# Altium schematic symbol library Octavo.SchLib: 3 symbols
Pins are listed as number, name and electrical type; pins without a type are passive.

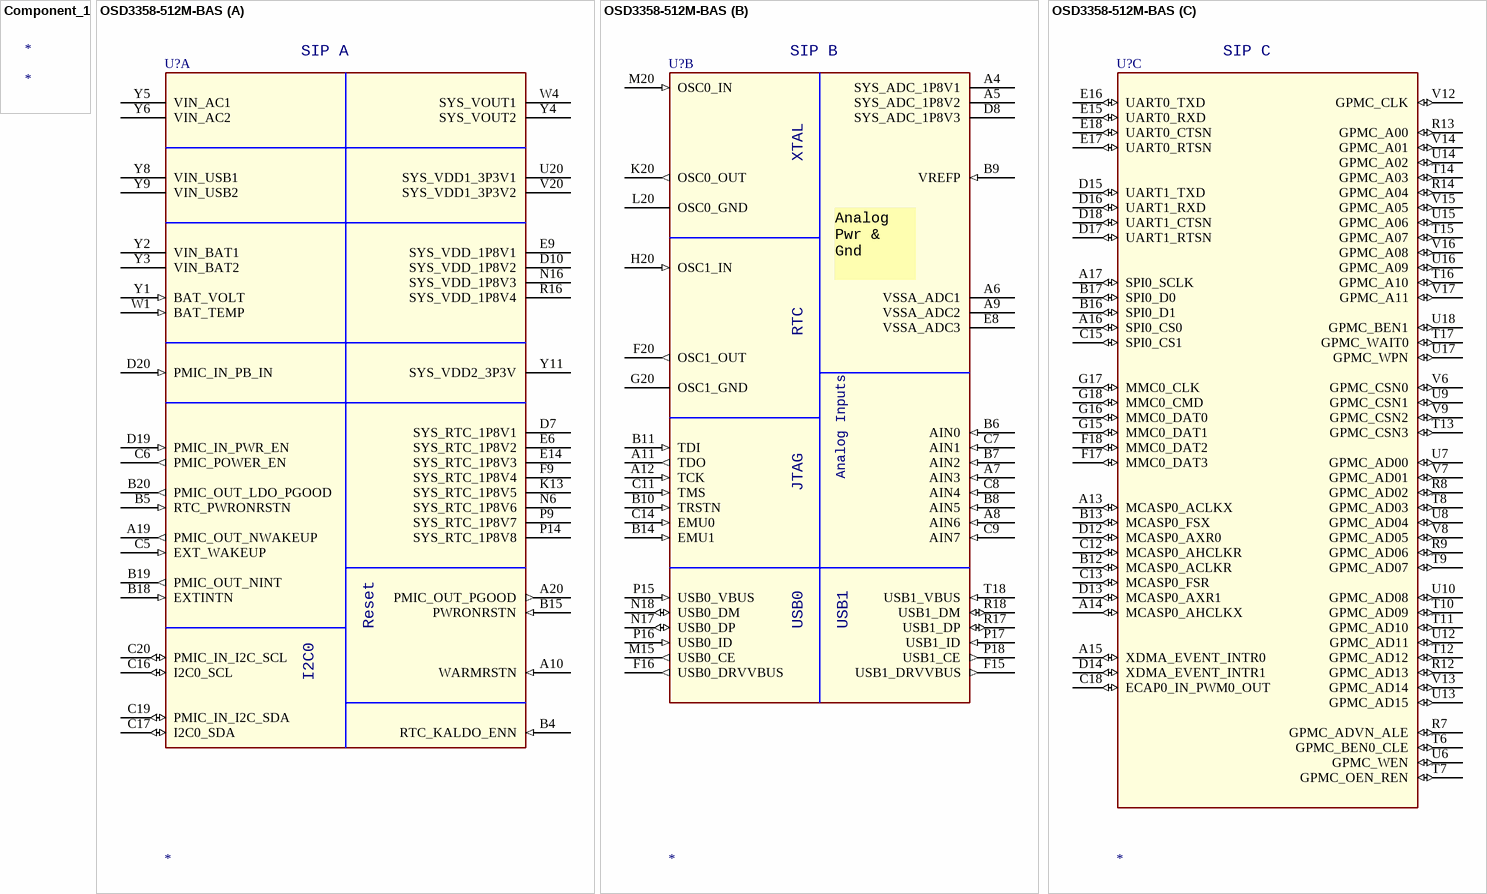
[diagram p0: symbols Component_1 to OSD3358-512M-BAS]

## Component_1
designator *

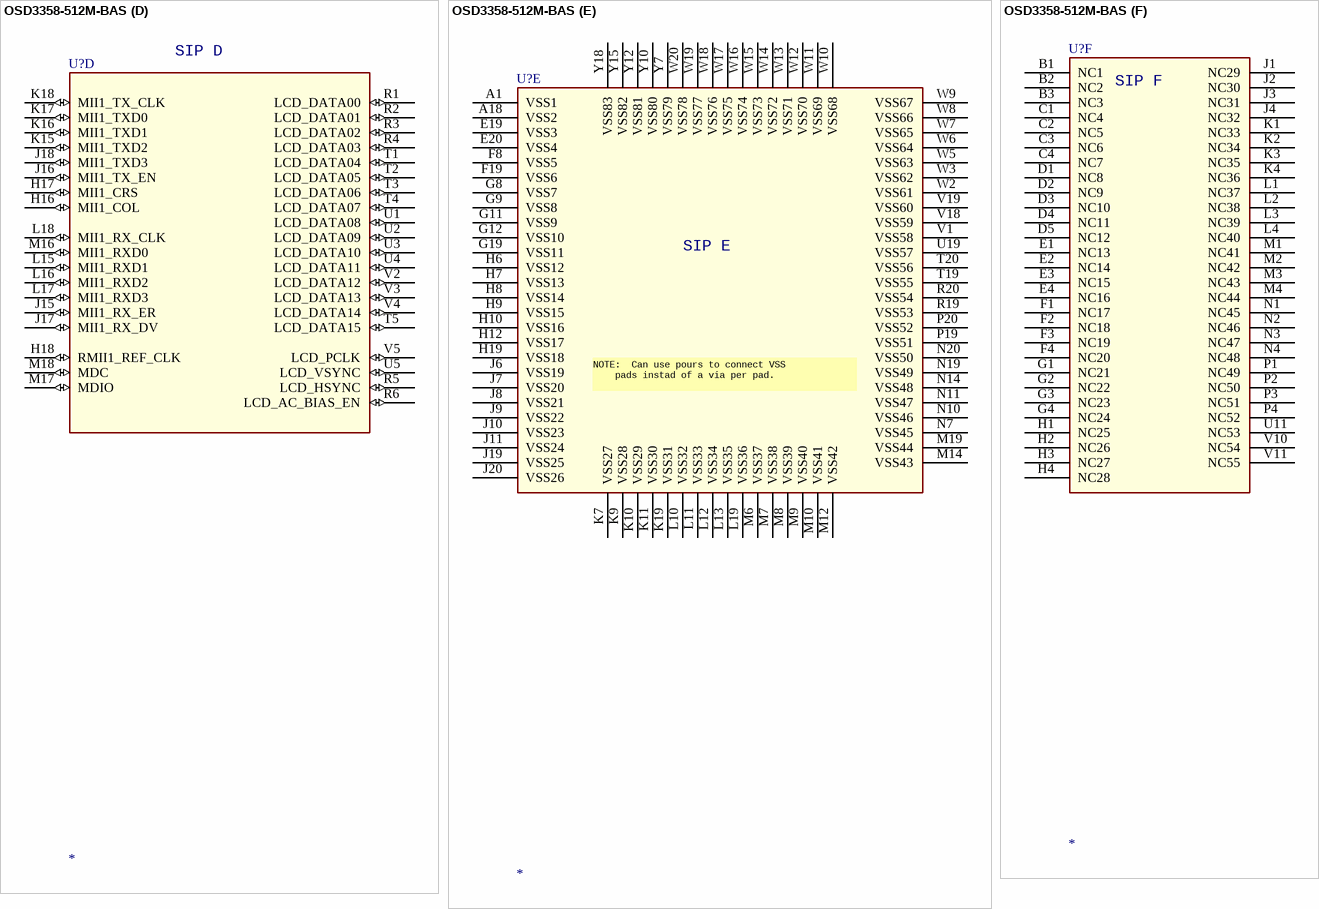
[diagram p1: symbol OSD3358-512M-BAS]

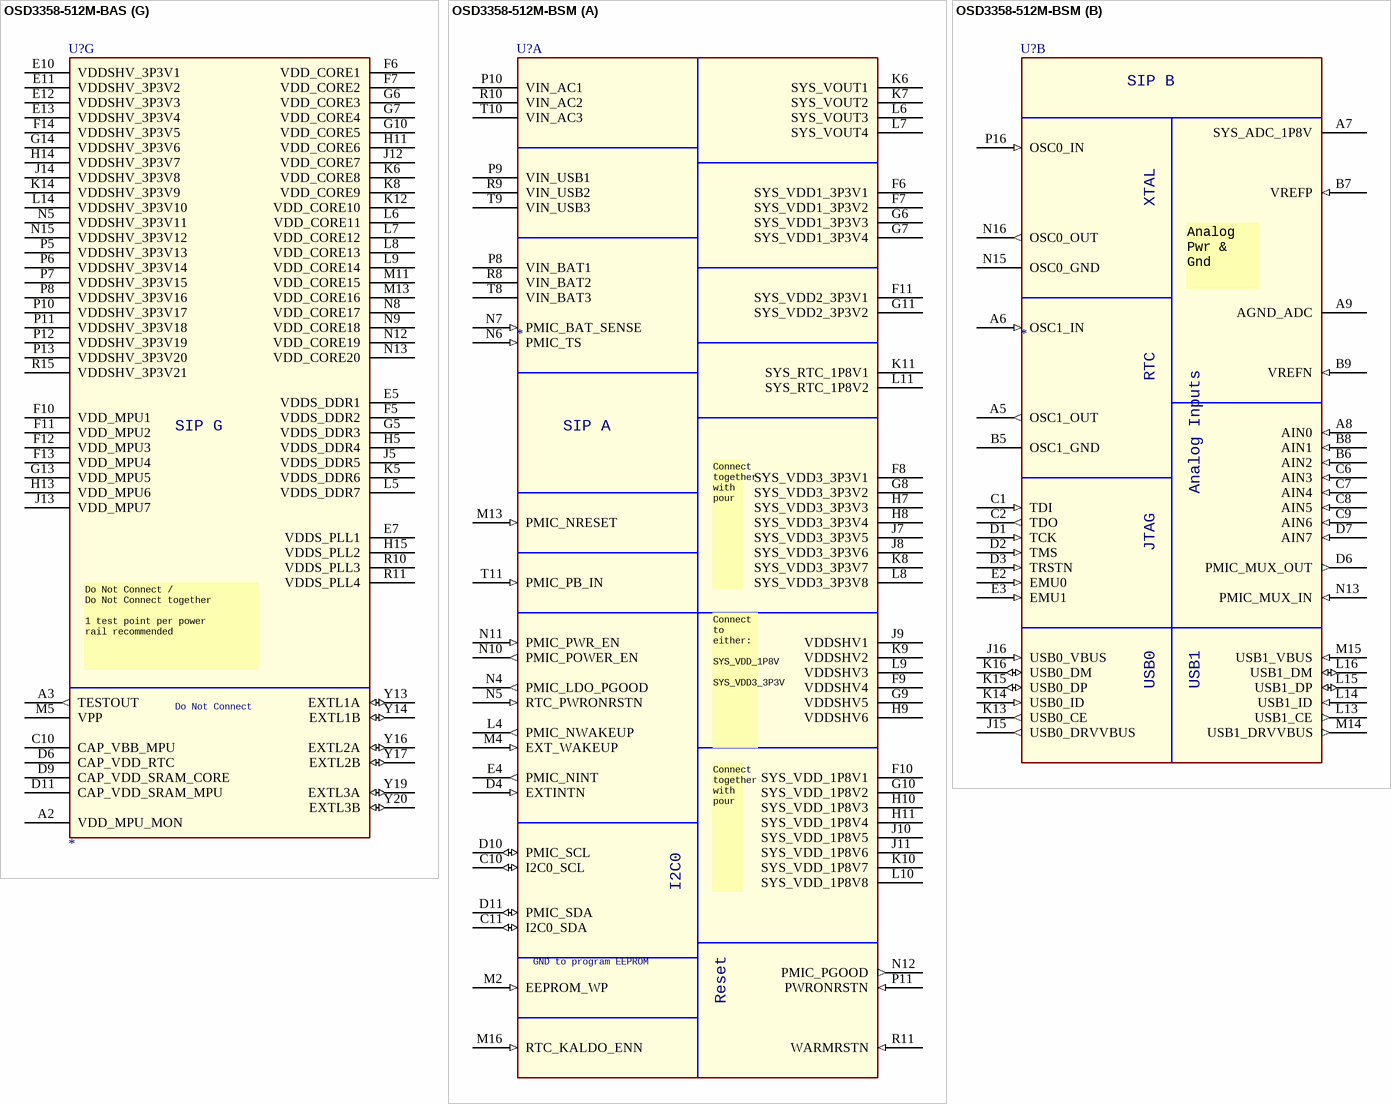
[diagram p2: symbols OSD3358-512M-BAS to OSD3358-512M-BSM]

## OSD3358-512M-BAS
designator U?
part A pins: A10 WARMRSTN (in), A19 PMIC_OUT_NWAKEUP (out), A20 PMIC_OUT_PGOOD (out), B4 RTC_KALDO_ENN (in), B5 RTC_PWRONRSTN (in), B15 PWRONRSTN (in), B18 EXTINTN (in), B19 PMIC_OUT_NINT (out), B20 PMIC_OUT_LDO_PGOOD (out), C5 EXT_WAKEUP (in), C6 PMIC_POWER_EN (out), C16 I2C0_SCL (io), C17 I2C0_SDA (io), C19 PMIC_IN_I2C_SDA (io), C20 PMIC_IN_I2C_SCL (io), D7 SYS_RTC_1P8V1 (power), D10 SYS_VDD_1P8V2 (power), D19 PMIC_IN_PWR_EN (in), D20 PMIC_IN_PB_IN (in), E6 SYS_RTC_1P8V2 (power), E9 SYS_VDD_1P8V1 (power), E14 SYS_RTC_1P8V3 (power), F9 SYS_RTC_1P8V4 (power), K13 SYS_RTC_1P8V5 (power), N6 SYS_RTC_1P8V6 (power), N16 SYS_VDD_1P8V3 (power), P9 SYS_RTC_1P8V7 (power), P14 SYS_RTC_1P8V8 (power), R16 SYS_VDD_1P8V4 (power), U20 SYS_VDD1_3P3V1 (power), V20 SYS_VDD1_3P3V2 (power), W1 BAT_TEMP (in), W4 SYS_VOUT1 (power), Y1 BAT_VOLT (in), Y2 VIN_BAT1, Y3 VIN_BAT2, Y4 SYS_VOUT2 (power), Y5 VIN_AC1, Y6 VIN_AC2, Y8 VIN_USB1, Y9 VIN_USB2, Y11 SYS_VDD2_3P3V (power)
part B pins: A4 SYS_ADC_1P8V1 (power), A5 SYS_ADC_1P8V2 (power), A6 VSSA_ADC1 (power), A7 AIN3 (in), A8 AIN6 (in), A9 VSSA_ADC2 (power), A11 TDO (out), A12 TCK (in), B6 AIN0 (in), B7 AIN2 (in), B8 AIN5 (in), B9 VREFP (in), B10 TRSTN (in), B11 TDI (in), B14 EMU1 (in), C7 AIN1 (in), C8 AIN4 (in), C9 AIN7 (in), C11 TMS (in), C14 EMU0 (in), D8 SYS_ADC_1P8V3 (power), E8 VSSA_ADC3 (power), F15 USB1_DRVVBUS (out), F16 USB0_DRVVBUS (out), F20 OSC1_OUT (out), G20 OSC1_GND (power), H20 OSC1_IN (in), K20 OSC0_OUT (out), L20 OSC0_GND (power), M15 USB0_CE (out), M20 OSC0_IN (in), N17 USB0_DP (io), N18 USB0_DM (io), P15 USB0_VBUS (in), P16 USB0_ID (in), P17 USB1_ID (in), P18 USB1_CE (out), R17 USB1_DP (io), R18 USB1_DM (io), T18 USB1_VBUS (in)
part C pins: A13 MCASP0_ACLKX (io), A14 MCASP0_AHCLKX (io), A15 XDMA_EVENT_INTR0 (io), A16 SPI0_CS0 (io), A17 SPI0_SCLK (io), B12 MCASP0_ACLKR (io), B13 MCASP0_FSX (io), B16 SPI0_D1 (io), B17 SPI0_D0 (io), C12 MCASP0_AHCLKR (io), C13 MCASP0_FSR (io), C15 SPI0_CS1 (io), C18 ECAP0_IN_PWM0_OUT (io), D12 MCASP0_AXR0 (io), D13 MCASP0_AXR1 (io), D14 XDMA_EVENT_INTR1 (io), D15 UART1_TXD (io), D16 UART1_RXD (io), D17 UART1_RTSN (io), D18 UART1_CTSN (io), E15 UART0_RXD (io), E16 UART0_TXD (io), E17 UART0_RTSN (io), E18 UART0_CTSN (io), F17 MMC0_DAT3 (io), F18 MMC0_DAT2 (io), G15 MMC0_DAT1 (io), G16 MMC0_DAT0 (io), G17 MMC0_CLK (io), G18 MMC0_CMD (io), R7 GPMC_ADVN_ALE (io), R8 GPMC_AD02 (io), R9 GPMC_AD06 (io), R12 GPMC_AD13 (io), R13 GPMC_A00 (io), R14 GPMC_A04 (io), T6 GPMC_BEN0_CLE (io), T7 GPMC_OEN_REN (io), T8 GPMC_AD03 (io), T9 GPMC_AD07 (io), T10 GPMC_AD09 (io), T11 GPMC_AD10 (io), T12 GPMC_AD12 (io), T13 GPMC_CSN3 (io), T14 GPMC_A03 (io), T15 GPMC_A07 (io), T16 GPMC_A10 (io), T17 GPMC_WAIT0 (io), U6 GPMC_WEN (io), U7 GPMC_AD00 (io), U8 GPMC_AD04 (io), U9 GPMC_CSN1 (io), U10 GPMC_AD08 (io), U12 GPMC_AD11 (io), U13 GPMC_AD15 (io), U14 GPMC_A02 (io), U15 GPMC_A06 (io), U16 GPMC_A09 (io), U17 GPMC_WPN (io), U18 GPMC_BEN1 (io), V6 GPMC_CSN0 (io), V7 GPMC_AD01 (io), V8 GPMC_AD05 (io), V9 GPMC_CSN2 (io), V12 GPMC_CLK (io), V13 GPMC_AD14 (io), V14 GPMC_A01 (io), V15 GPMC_A05 (io), V16 GPMC_A08 (io), V17 GPMC_A11 (io)
part D pins: H16 MII1_COL (io), H17 MII1_CRS (io), H18 RMII1_REF_CLK (io), J15 MII1_RX_ER (io), J16 MII1_TX_EN (io), J17 MII1_RX_DV (io), J18 MII1_TXD3 (io), K15 MII1_TXD2 (io), K16 MII1_TXD1 (io), K17 MII1_TXD0 (io), K18 MII1_TX_CLK (io), L15 MII1_RXD1 (io), L16 MII1_RXD2 (io), L17 MII1_RXD3 (io), L18 MII1_RX_CLK (io), M16 MII1_RXD0 (io), M17 MDIO (io), M18 MDC (io), R1 LCD_DATA00 (io), R2 LCD_DATA01 (io), R3 LCD_DATA02 (io), R4 LCD_DATA03 (io), R5 LCD_HSYNC (io), R6 LCD_AC_BIAS_EN (io), T1 LCD_DATA04 (io), T2 LCD_DATA05 (io), T3 LCD_DATA06 (io), T4 LCD_DATA07 (io), T5 LCD_DATA15 (io), U1 LCD_DATA08 (io), U2 LCD_DATA09 (io), U3 LCD_DATA10 (io), U4 LCD_DATA11 (io), U5 LCD_VSYNC (io), V2 LCD_DATA12 (io), V3 LCD_DATA13 (io), V4 LCD_DATA14 (io), V5 LCD_PCLK (io)
part E pins: A1 VSS1 (power), A18 VSS2 (power), E19 VSS3 (power), E20 VSS4 (power), F8 VSS5 (power), F19 VSS6 (power), G8 VSS7 (power), G9 VSS8 (power), G11 VSS9 (power), G12 VSS10 (power), G19 VSS11 (power), H6 VSS12 (power), H7 VSS13 (power), H8 VSS14 (power), H9 VSS15 (power), H10 VSS16 (power), H12 VSS17 (power), H19 VSS18 (power), J6 VSS19 (power), J7 VSS20 (power), J8 VSS21 (power), J9 VSS22 (power), J10 VSS23 (power), J11 VSS24 (power), J19 VSS25 (power), J20 VSS26 (power), K7 VSS27 (power), K9 VSS28 (power), K10 VSS29 (power), K11 VSS30 (power), K19 VSS31 (power), L10 VSS32 (power), L11 VSS33 (power), L12 VSS34 (power), L13 VSS35 (power), L19 VSS36 (power), M6 VSS37 (power), M7 VSS38 (power), M8 VSS39 (power), M9 VSS40 (power), M10 VSS41 (power), M12 VSS42 (power), M14 VSS43 (power), M19 VSS44 (power), N7 VSS45 (power), N10 VSS46 (power), N11 VSS47 (power), N14 VSS48 (power), N19 VSS49 (power), N20 VSS50 (power), P19 VSS51 (power), P20 VSS52 (power), R19 VSS53 (power), R20 VSS54 (power), T19 VSS55 (power), T20 VSS56 (power), U19 VSS57 (power), V1 VSS58 (power), V18 VSS59 (power), V19 VSS60 (power), W2 VSS61 (power), W3 VSS62 (power), W5 VSS63 (power), W6 VSS64 (power), W7 VSS65 (power), W8 VSS66 (power), W9 VSS67 (power), W10 VSS68 (power), W11 VSS69 (power), W12 VSS70 (power), W13 VSS71 (power), W14 VSS72 (power), W15 VSS73 (power), W16 VSS74 (power), W17 VSS75 (power), W18 VSS76 (power), W19 VSS77 (power), W20 VSS78 (power), Y7 VSS79 (power), Y10 VSS80 (power), Y12 VSS81 (power), Y15 VSS82 (power), Y18 VSS83 (power)
part F pins: B1 NC1, B2 NC2, B3 NC3, C1 NC4, C2 NC5, C3 NC6, C4 NC7, D1 NC8, D2 NC9, D3 NC10, D4 NC11, D5 NC12, E1 NC13, E2 NC14, E3 NC15, E4 NC16, F1 NC17, F2 NC18, F3 NC19, F4 NC20, G1 NC21, G2 NC22, G3 NC23, G4 NC24, H1 NC25, H2 NC26, H3 NC27, H4 NC28, J1 NC29, J2 NC30, J3 NC31, J4 NC32, K1 NC33, K2 NC34, K3 NC35, K4 NC36, L1 NC37, L2 NC38, L3 NC39, L4 NC40, M1 NC41, M2 NC42, M3 NC43, M4 NC44, N1 NC45, N2 NC46, N3 NC47, N4 NC48, P1 NC49, P2 NC50, P3 NC51, P4 NC52, U11 NC53, V10 NC54, V11 NC55
part G pins: A2 VDD_MPU_MON (power), A3 TESTOUT (out), C10 CAP_VBB_MPU (power), D6 CAP_VDD_RTC (power), D9 CAP_VDD_SRAM_CORE (power), D11 CAP_VDD_SRAM_MPU (power), E5 VDDS_DDR1 (power), E7 VDDS_PLL1 (power), E10 VDDSHV_3P3V1 (power), E11 VDDSHV_3P3V2 (power), E12 VDDSHV_3P3V3 (power), E13 VDDSHV_3P3V4 (power), F5 VDDS_DDR2 (power), F6 VDD_CORE1 (power), F7 VDD_CORE2 (power), F10 VDD_MPU1 (power), F11 VDD_MPU2 (power), F12 VDD_MPU3 (power), F13 VDD_MPU4 (power), F14 VDDSHV_3P3V5 (power), G5 VDDS_DDR3 (power), G6 VDD_CORE3 (power), G7 VDD_CORE4 (power), G10 VDD_CORE5 (power), G13 VDD_MPU5 (power), G14 VDDSHV_3P3V6 (power), H5 VDDS_DDR4 (power), H11 VDD_CORE6 (power), H13 VDD_MPU6 (power), H14 VDDSHV_3P3V7 (power), H15 VDDS_PLL2 (power), J5 VDDS_DDR5 (power), J12 VDD_CORE7 (power), J13 VDD_MPU7 (power), J14 VDDSHV_3P3V8 (power), K5 VDDS_DDR6 (power), K6 VDD_CORE8 (power), K8 VDD_CORE9 (power), K12 VDD_CORE10 (power), K14 VDDSHV_3P3V9 (power), L5 VDDS_DDR7 (power), L6 VDD_CORE11 (power), L7 VDD_CORE12 (power), L8 VDD_CORE13 (power), L9 VDD_CORE14 (power), L14 VDDSHV_3P3V10 (power), M5 VPP (power), M11 VDD_CORE15 (power), M13 VDD_CORE16 (power), N5 VDDSHV_3P3V11 (power), N8 VDD_CORE17 (power), N9 VDD_CORE18 (power), N12 VDD_CORE19 (power), N13 VDD_CORE20 (power), N15 VDDSHV_3P3V12 (power), P5 VDDSHV_3P3V13 (power), P6 VDDSHV_3P3V14 (power), P7 VDDSHV_3P3V15 (power), P8 VDDSHV_3P3V16 (power), P10 VDDSHV_3P3V17 (power), P11 VDDSHV_3P3V18 (power), P12 VDDSHV_3P3V19 (power), P13 VDDSHV_3P3V20 (power), R10 VDDS_PLL3 (power), R11 VDDS_PLL4 (power), R15 VDDSHV_3P3V21 (power), Y13 EXTL1A (io), Y14 EXTL1B (io), Y16 EXTL2A (io), Y17 EXTL2B (io), Y19 EXTL3A (io), Y20 EXTL3B (io)
part A text: SIP A; Reset; I2C0
part B text: SIP B; XTAL; Analog / Pwr & Gnd; RTC; Analog Inputs; JTAG; USB0; USB1
part C text: SIP C
part D text: SIP D
part E text: SIP E; NOTE:  Can use pours to connect VSS / pads instad of a via per pad.
part F text: SIP F
part G text: SIP G; Do Not Connect / / Do Not Connect together / 1 test point per power / rail recommended; Do Not Connect

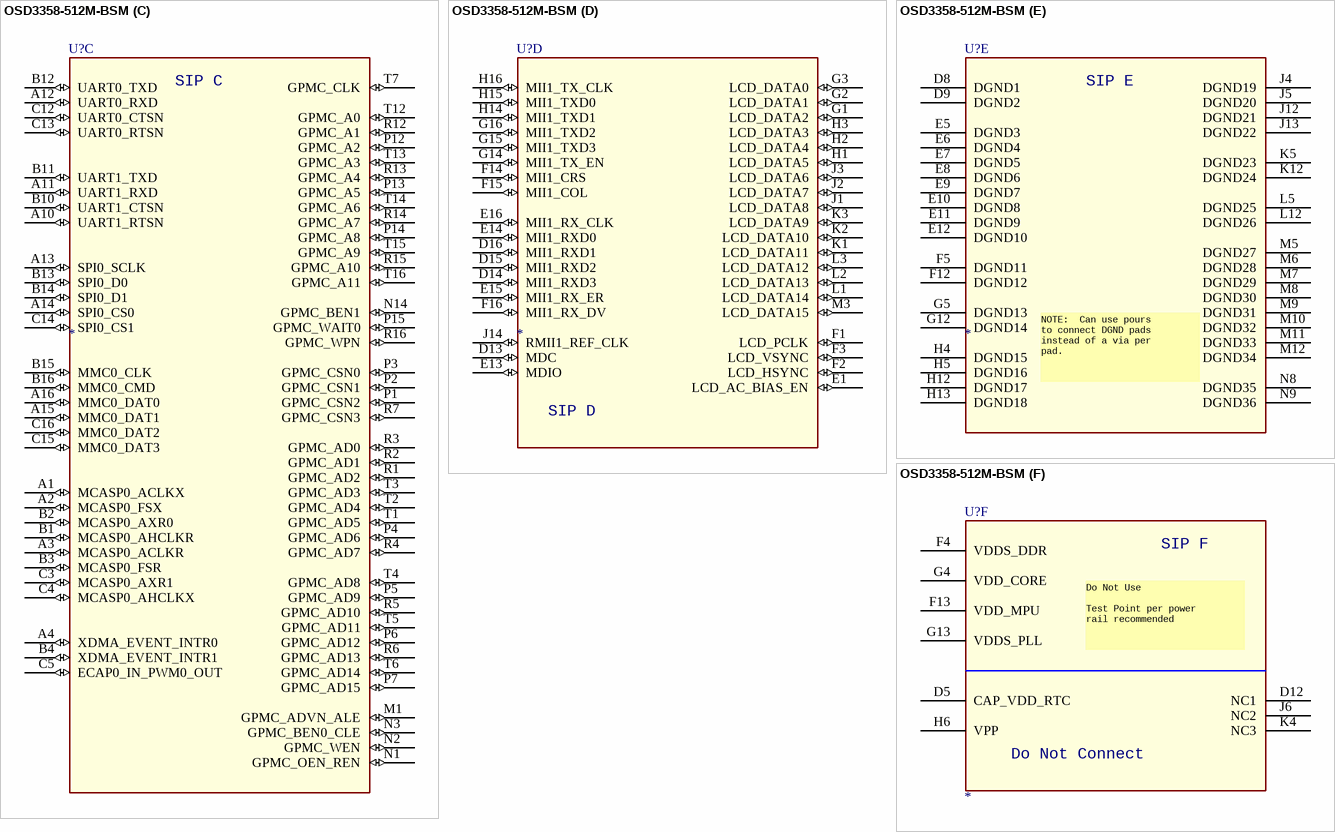
[diagram p3: symbol OSD3358-512M-BSM]

## OSD3358-512M-BSM
designator U?
part A pins: C10 I2C0_SCL (io), C11 I2C0_SDA (io), D4 EXTINTN (in), D10 PMIC_SCL (io), D11 PMIC_SDA (io), E4 PMIC_NINT (out), F6 SYS_VDD1_3P3V1 (power), F7 SYS_VDD1_3P3V2 (power), F8 SYS_VDD3_3P3V1 (power), F9 VDDSHV4 (power), F10 SYS_VDD_1P8V1 (power), F11 SYS_VDD2_3P3V1 (power), G6 SYS_VDD1_3P3V3 (power), G7 SYS_VDD1_3P3V4 (power), G8 SYS_VDD3_3P3V2 (power), G9 VDDSHV5 (power), G10 SYS_VDD_1P8V2 (power), G11 SYS_VDD2_3P3V2 (power), H7 SYS_VDD3_3P3V3 (power), H8 SYS_VDD3_3P3V4 (power), H9 VDDSHV6 (power), H10 SYS_VDD_1P8V3 (power), H11 SYS_VDD_1P8V4 (power), J7 SYS_VDD3_3P3V5 (power), J8 SYS_VDD3_3P3V6 (power), J9 VDDSHV1 (power), J10 SYS_VDD_1P8V5 (power), J11 SYS_VDD_1P8V6 (power), K6 SYS_VOUT1 (power), K7 SYS_VOUT2 (power), K8 SYS_VDD3_3P3V7 (power), K9 VDDSHV2 (power), K10 SYS_VDD_1P8V7 (power), K11 SYS_RTC_1P8V1 (power), L4 PMIC_NWAKEUP (out), L6 SYS_VOUT3 (power), L7 SYS_VOUT4 (power), L8 SYS_VDD3_3P3V8 (power), L9 VDDSHV3 (power), L10 SYS_VDD_1P8V8 (power), L11 SYS_RTC_1P8V2 (power), M2 EEPROM_WP (in), M4 EXT_WAKEUP (in), M13 PMIC_NRESET (in), M16 RTC_KALDO_ENN (in), N4 PMIC_LDO_PGOOD (out), N5 RTC_PWRONRSTN (in), N6 PMIC_TS (in), N7 PMIC_BAT_SENSE (in), N10 PMIC_POWER_EN (out), N11 PMIC_PWR_EN (in), N12 PMIC_PGOOD (out), P8 VIN_BAT1, P9 VIN_USB1, P10 VIN_AC1, P11 PWRONRSTN (in), R8 VIN_BAT2, R9 VIN_USB2, R10 VIN_AC2, R11 WARMRSTN (in), T8 VIN_BAT3, T9 VIN_USB3, T10 VIN_AC3, T11 PMIC_PB_IN (in)
part B pins: A5 OSC1_OUT (out), A6 OSC1_IN (in), A7 SYS_ADC_1P8V (power), A8 AIN0 (in), A9 AGND_ADC (power), B5 OSC1_GND (power), B6 AIN2 (in), B7 VREFP (in), B8 AIN1 (in), B9 VREFN (in), C1 TDI (in), C2 TDO (out), C6 AIN3 (in), C7 AIN4 (in), C8 AIN5 (in), C9 AIN6 (in), D1 TCK (in), D2 TMS (in), D3 TRSTN (in), D6 PMIC_MUX_OUT (out), D7 AIN7 (in), E2 EMU0 (in), E3 EMU1 (in), J15 USB0_DRVVBUS (out), J16 USB0_VBUS (in), K13 USB0_CE (out), K14 USB0_ID (in), K15 USB0_DP (io), K16 USB0_DM (io), L13 USB1_CE (out), L14 USB1_ID (in), L15 USB1_DP (io), L16 USB1_DM (io), M14 USB1_DRVVBUS (out), M15 USB1_VBUS (in), N13 PMIC_MUX_IN (in), N15 OSC0_GND (power), N16 OSC0_OUT (out), P16 OSC0_IN (in)
part C pins: A1 MCASP0_ACLKX (io), A2 MCASP0_FSX (io), A3 MCASP0_ACLKR (io), A4 XDMA_EVENT_INTR0 (io), A10 UART1_RTSN (io), A11 UART1_RXD (io), A12 UART0_RXD (io), A13 SPI0_SCLK (io), A14 SPI0_CS0 (io), A15 MMC0_DAT1 (io), A16 MMC0_DAT0 (io), B1 MCASP0_AHCLKR (io), B2 MCASP0_AXR0 (io), B3 MCASP0_FSR (io), B4 XDMA_EVENT_INTR1 (io), B10 UART1_CTSN (io), B11 UART1_TXD (io), B12 UART0_TXD (io), B13 SPI0_D0 (io), B14 SPI0_D1 (io), B15 MMC0_CLK (io), B16 MMC0_CMD (io), C3 MCASP0_AXR1 (io), C4 MCASP0_AHCLKX (io), C5 ECAP0_IN_PWM0_OUT (io), C12 UART0_CTSN (io), C13 UART0_RTSN (io), C14 SPI0_CS1 (io), C15 MMC0_DAT3 (io), C16 MMC0_DAT2 (io), M1 GPMC_ADVN_ALE (io), N1 GPMC_OEN_REN (io), N2 GPMC_WEN (io), N3 GPMC_BEN0_CLE (io), N14 GPMC_BEN1 (io), P1 GPMC_CSN2 (io), P2 GPMC_CSN1 (io), P3 GPMC_CSN0 (io), P4 GPMC_AD6 (io), P5 GPMC_AD9 (io), P6 GPMC_AD12 (io), P7 GPMC_AD15 (io), P12 GPMC_A2 (io), P13 GPMC_A5 (io), P14 GPMC_A8 (io), P15 GPMC_WAIT0 (io), R1 GPMC_AD2 (io), R2 GPMC_AD1 (io), R3 GPMC_AD0 (io), R4 GPMC_AD7 (io), R5 GPMC_AD10 (io), R6 GPMC_AD13 (io), R7 GPMC_CSN3 (io), R12 GPMC_A1 (io), R13 GPMC_A4 (io), R14 GPMC_A7 (io), R15 GPMC_A10 (io), R16 GPMC_WPN (io), T1 GPMC_AD5 (io), T2 GPMC_AD4 (io), T3 GPMC_AD3 (io), T4 GPMC_AD8 (io), T5 GPMC_AD11 (io), T6 GPMC_AD14 (io), T7 GPMC_CLK (io), T12 GPMC_A0 (io), T13 GPMC_A3 (io), T14 GPMC_A6 (io), T15 GPMC_A9 (io), T16 GPMC_A11 (io)
part D pins: D13 MDC (io), D14 MII1_RXD3 (io), D15 MII1_RXD2 (io), D16 MII1_RXD1 (io), E1 LCD_AC_BIAS_EN (io), E13 MDIO (io), E14 MII1_RXD0 (io), E15 MII1_RX_ER (io), E16 MII1_RX_CLK (io), F1 LCD_PCLK (io), F2 LCD_HSYNC (io), F3 LCD_VSYNC (io), F14 MII1_CRS (io), F15 MII1_COL (io), F16 MII1_RX_DV (io), G1 LCD_DATA2 (io), G2 LCD_DATA1 (io), G3 LCD_DATA0 (io), G14 MII1_TX_EN (io), G15 MII1_TXD3 (io), G16 MII1_TXD2 (io), H1 LCD_DATA5 (io), H2 LCD_DATA4 (io), H3 LCD_DATA3 (io), H14 MII1_TXD1 (io), H15 MII1_TXD0 (io), H16 MII1_TX_CLK (io), J1 LCD_DATA8 (io), J2 LCD_DATA7 (io), J3 LCD_DATA6 (io), J14 RMII1_REF_CLK (io), K1 LCD_DATA11 (io), K2 LCD_DATA10 (io), K3 LCD_DATA9 (io), L1 LCD_DATA14 (io), L2 LCD_DATA13 (io), L3 LCD_DATA12 (io), M3 LCD_DATA15 (io)
part E pins: D8 DGND1 (power), D9 DGND2 (power), E5 DGND3 (power), E6 DGND4 (power), E7 DGND5 (power), E8 DGND6 (power), E9 DGND7 (power), E10 DGND8 (power), E11 DGND9 (power), E12 DGND10 (power), F5 DGND11 (power), F12 DGND12 (power), G5 DGND13 (power), G12 DGND14 (power), H4 DGND15 (power), H5 DGND16 (power), H12 DGND17 (power), H13 DGND18 (power), J4 DGND19 (power), J5 DGND20 (power), J12 DGND21 (power), J13 DGND22 (power), K5 DGND23 (power), K12 DGND24 (power), L5 DGND25 (power), L12 DGND26 (power), M5 DGND27 (power), M6 DGND28 (power), M7 DGND29 (power), M8 DGND30 (power), M9 DGND31 (power), M10 DGND32 (power), M11 DGND33 (power), M12 DGND34 (power), N8 DGND35 (power), N9 DGND36 (power)
part F pins: D5 CAP_VDD_RTC (power), D12 NC1, F4 VDDS_DDR (power), F13 VDD_MPU (power), G4 VDD_CORE (power), G13 VDDS_PLL (power), H6 VPP (power), J6 NC2, K4 NC3
part A text: SIP A; Connect together / with pour; Connect to either: / SYS_VDD_1P8V / SYS_VDD3_3P3V; I2C0; GND to program EEPROM; Reset
part B text: SIP B; XTAL; Analog / Pwr & Gnd; RTC; Analog Inputs; JTAG; USB0; USB1
part C text: SIP C
part D text: SIP D
part E text: SIP E; NOTE:  Can use pours / to connect DGND pads / instead of a via per / pad.
part F text: SIP F; Do Not Use / Test Point per power / rail recommended; Do Not Connect